# Altium footprint library TGIS_Connectors.PcbLib: 8 footprints
Each footprint in its own frame and in the unit in brackets; x right, y up, seen from the top. Pads: shape width x height; smd on the part's side, far side on the other; paste and mask are expansions set on the pad; w line width, h text height; cw(c..) or ccw(c..) is an arc to the next point about the centre after c.
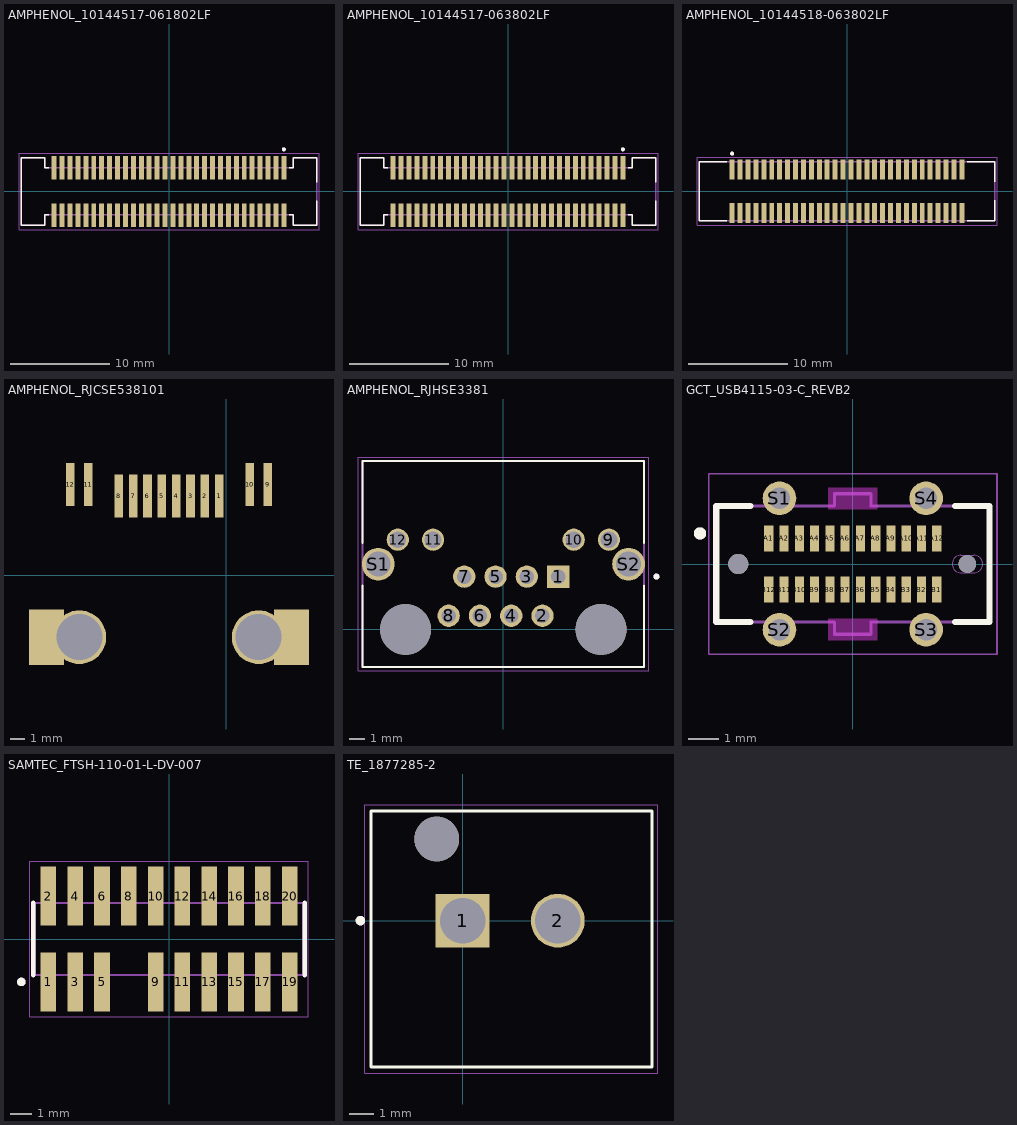
[diagram p0: the footprints below, top view; thin cyan lines are the x and y axes]

## AMPHENOL_10144517-061802LF [mm]
height 12
pads (60):
  rect 0.5x2.4 smd: 1(11.6,2.4) 2(11.6,-2.4) 3(10.8,2.4) 4(10.8,-2.4) 5(10,2.4) 6(10,-2.4) 7(9.2,2.4) 8(9.2,-2.4) 9(8.4,2.4) 10(8.4,-2.4) 11(7.6,2.4) 12(7.6,-2.4) 13(6.8,2.4) 14(6.8,-2.4) 15(6,2.4) 16(6,-2.4) 17(5.2,2.4) 18(5.2,-2.4) 19(4.4,2.4) 20(4.4,-2.4) 21(3.6,2.4) 22(3.6,-2.4) 23(2.8,2.4) 24(2.8,-2.4) 25(2,2.4) 26(2,-2.4) 27(1.2,2.4) 28(1.2,-2.4) 29(0.4,2.4) 30(0.4,-2.4) 31(-0.4,2.4) 32(-0.4,-2.4) 33(-1.2,2.4) 34(-1.2,-2.4) 35(-2,2.4) 36(-2,-2.4) 37(-2.8,2.4) 38(-2.8,-2.4) 39(-3.6,2.4) 40(-3.6,-2.4) 41(-4.4,2.4) 42(-4.4,-2.4) 43(-5.2,2.4) 44(-5.2,-2.4) 45(-6,2.4) 46(-6,-2.4) 47(-6.8,2.4) 48(-6.8,-2.4) 49(-7.6,2.4) 50(-7.6,-2.4) 51(-8.4,2.4) 52(-8.4,-2.4) 53(-9.2,2.4) 54(-9.2,-2.4) 55(-10,2.4) 56(-10,-2.4) 57(-10.8,2.4) 58(-10.8,-2.4) 59(-11.6,2.4) 60(-11.6,-2.4)
Top Overlay:
  circle w0.2: c11.6,4.25 r0.1
  lines w0.127: -12.165,-2.375 -12.525,-2.375 -12.525,-3.4 -14.9,-3.4 -14.9,3.4 -12.525,3.4 -12.525,2.375 -12.165,2.375 ; 12.165,-2.375 12.525,-2.375 12.525,-3.4 14.9,-3.4 14.9,-0.92 ; 12.165,2.375 12.525,2.375 12.525,3.4 14.9,3.4 14.9,0.92
Mechanical 13:
  circle w0.2: c11.6,4.25 r0.1
  lines w0.127: -14.9,-3.4 -14.9,3.4 -12.525,3.4 -12.525,2.375 12.525,2.375 12.525,3.4 14.9,3.4 14.9,-3.4 12.525,-3.4 12.525,-2.375 -12.525,-2.375 -12.525,-3.4 -14.9,-3.4
Mechanical 15:
  lines w0.05: -15.15,-3.85 15.15,-3.85 15.15,3.85 -15.15,3.85 -15.15,-3.85
3D body "10144517-061x0xxx.step": height 3.65, standoff -0.05, extent -14.9,-3 14.9,3

## AMPHENOL_10144517-063802LF [mm]
height 12
pads (60):
  rect 0.5x2.4 smd: 1(11.6,2.4) 2(11.6,-2.4) 3(10.8,2.4) 4(10.8,-2.4) 5(10,2.4) 6(10,-2.4) 7(9.2,2.4) 8(9.2,-2.4) 9(8.4,2.4) 10(8.4,-2.4) 11(7.6,2.4) 12(7.6,-2.4) 13(6.8,2.4) 14(6.8,-2.4) 15(6,2.4) 16(6,-2.4) 17(5.2,2.4) 18(5.2,-2.4) 19(4.4,2.4) 20(4.4,-2.4) 21(3.6,2.4) 22(3.6,-2.4) 23(2.8,2.4) 24(2.8,-2.4) 25(2,2.4) 26(2,-2.4) 27(1.2,2.4) 28(1.2,-2.4) 29(0.4,2.4) 30(0.4,-2.4) 31(-0.4,2.4) 32(-0.4,-2.4) 33(-1.2,2.4) 34(-1.2,-2.4) 35(-2,2.4) 36(-2,-2.4) 37(-2.8,2.4) 38(-2.8,-2.4) 39(-3.6,2.4) 40(-3.6,-2.4) 41(-4.4,2.4) 42(-4.4,-2.4) 43(-5.2,2.4) 44(-5.2,-2.4) 45(-6,2.4) 46(-6,-2.4) 47(-6.8,2.4) 48(-6.8,-2.4) 49(-7.6,2.4) 50(-7.6,-2.4) 51(-8.4,2.4) 52(-8.4,-2.4) 53(-9.2,2.4) 54(-9.2,-2.4) 55(-10,2.4) 56(-10,-2.4) 57(-10.8,2.4) 58(-10.8,-2.4) 59(-11.6,2.4) 60(-11.6,-2.4)
Top Overlay:
  circle w0.2: c11.6,4.25 r0.1
  lines w0.127: -12.165,-2.375 -12.525,-2.375 -12.525,-3.4 -14.9,-3.4 -14.9,3.4 -12.525,3.4 -12.525,2.375 -12.165,2.375 ; 12.165,-2.375 12.525,-2.375 12.525,-3.4 14.9,-3.4 14.9,-0.92 ; 12.165,2.375 12.525,2.375 12.525,3.4 14.9,3.4 14.9,0.92
Mechanical 13:
  circle w0.2: c11.6,4.25 r0.1
  lines w0.127: -14.9,-3.4 -12.525,-3.4 -12.525,-2.375 12.525,-2.375 12.525,-3.4 14.9,-3.4 14.9,3.4 12.525,3.4 12.525,2.375 -12.525,2.375 -12.525,3.4 -14.9,3.4 -14.9,-3.4
Mechanical 15:
  lines w0.05: -15.15,-3.85 -15.15,3.85 15.15,3.85 15.15,-3.85 -15.15,-3.85
3D body "step_temp.STEP": height 11.65, standoff -0.75, extent -14.9,-3.4 14.9,3.4

## AMPHENOL_10144518-063802LF [mm]
height 7
pads (60):
  rect 0.5x2 smd: 1(-11.6,2.2) 2(-11.6,-2.2) 3(-10.8,2.2) 4(-10.8,-2.2) 5(-10,2.2) 6(-10,-2.2) 7(-9.2,2.2) 8(-9.2,-2.2) 9(-8.4,2.2) 10(-8.4,-2.2) 11(-7.6,2.2) 12(-7.6,-2.2) 13(-6.8,2.2) 14(-6.8,-2.2) 15(-6,2.2) 16(-6,-2.2) 17(-5.2,2.2) 18(-5.2,-2.2) 19(-4.4,2.2) 20(-4.4,-2.2) 21(-3.6,2.2) 22(-3.6,-2.2) 23(-2.8,2.2) 24(-2.8,-2.2) 25(-2,2.2) 26(-2,-2.2) 27(-1.2,2.2) 28(-1.2,-2.2) 29(-0.4,2.2) 30(-0.4,-2.2) 31(0.4,2.2) 32(0.4,-2.2) 33(1.2,2.2) 34(1.2,-2.2) 35(2,2.2) 36(2,-2.2) 37(2.8,2.2) 38(2.8,-2.2) 39(3.6,2.2) 40(3.6,-2.2) 41(4.4,2.2) 42(4.4,-2.2) 43(5.2,2.2) 44(5.2,-2.2) 45(6,2.2) 46(6,-2.2) 47(6.8,2.2) 48(6.8,-2.2) 49(7.6,2.2) 50(7.6,-2.2) 51(8.4,2.2) 52(8.4,-2.2) 53(9.2,2.2) 54(9.2,-2.2) 55(10,2.2) 56(10,-2.2) 57(10.8,2.2) 58(10.8,-2.2) 59(11.6,2.2) 60(11.6,-2.2)
Top Overlay:
  circle w0.2: c-11.6,3.8 r0.1
  lines w0.127: -12.17,-3 -14.9,-3 -14.9,3 -12.17,3 ; 12.17,-3 14.9,-3 14.9,-0.935 ; 12.17,3 14.9,3 14.9,0.935
Mechanical 13:
  circle w0.2: c-11.6,3.8 r0.1
  lines w0.127: -14.9,-3 -14.9,3 14.9,3 14.9,-3 -14.9,-3
Mechanical 15:
  lines w0.05: -15.15,-3.45 15.15,-3.45 15.15,3.45 -15.15,3.45 -15.15,-3.45
3D body "step_temp.STEP": height 6.65, standoff -0.7, extent -14.9,-3 14.9,3

## AMPHENOL_RJCSE538101 [mil]
pads (16):
  rect 24x120 smd: 1(-20,220) 2(-60,220) 3(-100,220) 4(-140,220) 5(-180,220) 6(-220,220) 7(-260,220) 8(-300,220) 9(115,252) 10(65,252) 11(-385,252) 12(-435,252)
  rect 98x154 smd: ""(-501,-173) ""(181,-173)
  round 150 hole 128: ""(-410,-173) ""(90,-173)
3D body "M-RJCSE-X38X-01X-REVT1.STEP": height 608.16, standoff -54.52, extent -529.57,-421.18 212.94,316.88

## AMPHENOL_RJHSE3381 [mm]
height 16.38
pads (16):
  rect 1.448x1.448 / inner round 1.448 / far side rect 1.448x1.448 hole 0.94: 1(3.556,3.43)
  round 1.448 hole 0.94: 2(2.54,0.89) 3(1.524,3.43) 4(0.508,0.89) 5(-0.508,3.43) 6(-1.524,0.89) 7(-2.54,3.43) 8(-3.556,0.89)
  round 1.44 hole 1.09: 9(6.86,5.827) 10(4.57,5.827) 11(-4.57,5.827) 12(-6.86,5.827)
  round 2.128 hole 1.62: S1(-8.13,4.24) S2(8.13,4.24)
  round 3.3 hole 3.3 unplated: ""(-6.35,0) ""(6.35,0)
Top Overlay:
  circle w0.2: c9.944,3.43 r0.1
  lines w0.127: -9.145,2.856 -9.145,-2.43 9.145,-2.43 9.145,2.856 ; -9.145,5.624 -9.145,10.93 9.145,10.93 9.145,5.624
Mechanical 13:
  circle w0.2: c9.944,3.43 r0.1
  lines w0.127: -9.145,-2.43 9.145,-2.43 9.145,10.93 -9.145,10.93 -9.145,-2.43
Mechanical 15:
  lines w0.05: -9.444,-2.68 -9.444,11.18 9.444,11.18 9.444,-2.68 -9.444,-2.68
3D body "step_temp.STEP": height 16.38, standoff -3.68, extent -9.144,-2.527 9.144,11.037

## GCT_USB4115-03-C_REVB2 [mm]
pads (30):
  rect 0.3x0.85 smd: A1(-2.75,0.835) A2(-2.25,0.835) A3(-1.75,0.835) A4(-1.25,0.835) A5(-0.75,0.835) A6(-0.25,0.835) A7(0.25,0.835) A8(0.75,0.835) A9(1.25,0.835) A10(1.75,0.835) A11(2.25,0.835) A12(2.75,0.835) B1(2.75,-0.835) B2(2.25,-0.835) B3(1.75,-0.835) B4(1.25,-0.835) B5(0.75,-0.835) B6(0.25,-0.835) B7(-0.25,-0.835) B8(-0.75,-0.835) B9(-1.25,-0.835) B10(-1.75,-0.835) B11(-2.25,-0.835) B12(-2.75,-0.835)
  round 1.1 hole 0.7: S1(-2.4,2.15) S2(-2.4,-2.15) S3(2.4,-2.15) S4(2.4,2.15)
  round 0.66 hole 0.66 unplated: ""(-3.75,0)
  round 0.58 hole 0.58 unplated: ""(3.75,0)
Top Overlay:
  circle w0.2: c-5,1 r0.1
  lines w0.2: -3.35,-1.9 -4.47,-1.9 -4.47,1.9 -3.35,1.9 ; 3.35,-1.9 4.47,-1.9 4.47,1.9 3.35,1.9
Keep-Out Layer:
  region: 0.8,1.8 -0.8,1.8 -0.8,2.5 0.8,2.5
  region: 0.8,-2.5 -0.8,-2.5 -0.8,-1.8 0.8,-1.8
Mechanical 1:
  lines w0: 3.25,0 ccw(c3.54,0) 3.54,-0.29 3.96,-0.29 ccw(c3.96,0) 4.25,0 ccw(c3.96,0) 3.96,0.29 3.54,0.29 ccw(c3.54,0) 3.25,0
Mechanical 13:
  circle w0.2: c-5,1 r0.1
  lines w0.1: -4.47,-1.9 -4.47,1.9 -0.6,1.9 -0.6,2.3 0.6,2.3 0.6,1.9 4.47,1.9 4.47,-1.9 0.6,-1.9 0.6,-2.3 -0.6,-2.3 -0.6,-1.9 -4.47,-1.9
Mechanical 15:
  lines w0.05: -4.72,-2.95 4.72,-2.95 4.72,2.95 -4.72,2.95 -4.72,-2.95
3D body "step_temp.STEP": height 9.25, standoff -1.15, extent -4.47,-2.3 4.47,2.3

## SAMTEC_FTSH-110-01-L-DV-007 [mm]
pads (19):
  rect 0.74x2.79 smd: 1(-5.715,-2.035) 2(-5.715,2.035) 3(-4.445,-2.035) 4(-4.445,2.035) 5(-3.175,-2.035) 6(-3.175,2.035) 8(-1.905,2.035) 9(-0.635,-2.035) 10(-0.635,2.035) 11(0.635,-2.035) 12(0.635,2.035) 13(1.905,-2.035) 14(1.905,2.035) 15(3.175,-2.035) 16(3.175,2.035) 17(4.445,-2.035) 18(4.445,2.035) 19(5.715,-2.035) 20(5.715,2.035)
Top Overlay:
  circle w0.2: c-7,-2.035 r0.1
  lines w0.2: -6.435,-1.715 -6.435,1.715 ; 6.435,-1.715 6.435,1.715
Mechanical 13:
  circle w0.2: c-7,-2.035 r0.1
  lines w0.1: -6.35,-1.715 -6.35,1.715 ; -6.35,-1.715 6.35,-1.715 ; -6.35,-1.715 -6.35,1.715 ; -6.35,1.715 6.35,1.715 ; -6.35,1.715 6.35,1.715 ; 6.35,-1.715 6.35,1.715 ; 6.35,-1.715 6.35,1.715
Mechanical 15:
  lines w0.05: -6.6,-3.68 -6.6,3.68 6.6,3.68 6.6,-3.68 -6.6,-3.68
3D body "FTSH-110-01-L-DV-007-K.stp": height 6.13, standoff 0.01, extent -6.35,-2.921 6.35,2.921

## TE_1877285-2 [mm]
pads (3):
  rect 2.24x2.24 hole 1.89: 1(0,0)
  round 2.24 hole 1.89: 2(3.96,0)
  round 1.86 hole 1.86 unplated: ""(-1.08,3.4)
Top Overlay:
  circle w0.2: c-4.255,0 r0.1
  lines w0.127: -3.81,-6.096 7.874,-6.096 7.874,4.572 -3.81,4.572 -3.81,-6.096
Mechanical 13:
  circle w0.2: c-4.255,0 r0.1
Mechanical 15:
  lines w0.05: -4.064,-6.35 8.128,-6.35 8.128,4.826 -4.064,4.826 -4.064,-6.35
3D body "c-1877285-2-c-3d.stp": height 12.01, standoff -3.61, extent -3.553,-5.821 7.617,4.064